# EAGLE library part W9325-ZC158 (library F030NG)
PLCC44 socket plug by Wislow Adaptics
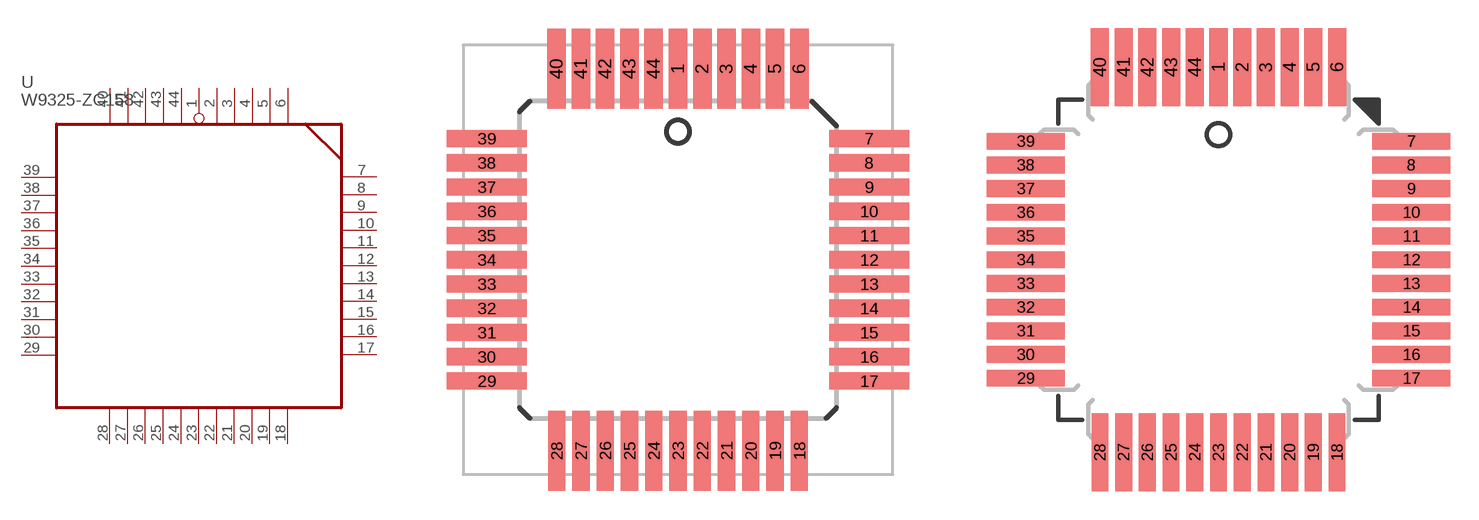
[diagram p93: symbol with the pads of W9325-*; footprints W9325-*, W93275_PHV]

Designator prefix U

## W9325-ZC158  [W9325-*]
1  P1
2  P2
3  P3
4  P4
5  P5
6  P6
7  P7
8  P8
9  P9
10  P10
11  P11
12  P12
13  P13
14  P14
15  P15
16  P16
17  P17
18  P18
19  P19
20  P20
21  P21
22  P22
23  P23
24  P24
25  P25
26  P26
27  P27
28  P28
29  P29
30  P30
31  P31
32  P32
33  P33
34  P34
35  P35
36  P36
37  P37
38  P38
39  P39
40  P40
41  P41
42  P42
43  P43
44  P44

## W9325-ZC158PHV  [W93275_PHV]
Pads as for W9325-*

## Footprint W9325-* (pad centres in mm)
PLASTIC LEADED CHIP CARRIER square
smd 0.97 x 4.2: 1 0,10.005; 2 1.27,10.005; 3 2.54,10.005; 4 3.81,10.005; 5 5.08,10.005; 6 6.35,10.005; 40 -6.35,10.005; 41 -5.08,10.005; 42 -3.81,10.005; 43 -2.54,10.005; 44 -1.27,10.005
smd 4.2 x 0.9: 7 10.005,6.35; 8 10.005,5.08; 9 10.005,3.81; 10 10.005,2.54; 11 10.005,1.27; 12 10.005,0; 13 10.005,-1.27; 14 10.005,-2.54; 15 10.005,-3.81; 16 10.005,-5.08; 17 10.005,-6.35; 29 -10.005,-6.35; 30 -10.005,-5.08; 31 -10.005,-3.81; 32 -10.005,-2.54; 33 -10.005,-1.27; 34 -10.005,0; 35 -10.005,1.27; 36 -10.005,2.54; 37 -10.005,3.81; 38 -10.005,5.08; 39 -10.005,6.35
smd 0.9 x 4.2: 18 6.35,-10.005; 19 5.08,-10.005; 20 3.81,-10.005; 21 2.54,-10.005; 22 1.27,-10.005; 23 0,-10.005; 24 -1.27,-10.005; 25 -2.54,-10.005; 26 -3.81,-10.005; 27 -5.08,-10.005; 28 -6.35,-10.005

## Footprint W93275_PHV (pad centres in mm)
PLASTIC LEADED CHIP CARRIER square
smd 0.97 x 4.2: 1 0,10.322; 2 1.27,10.322; 3 2.54,10.322; 4 3.81,10.322; 5 5.08,10.322; 6 6.35,10.322; 40 -6.35,10.322; 41 -5.08,10.322; 42 -3.81,10.322; 43 -2.54,10.322; 44 -1.27,10.322
smd 4.2 x 0.9: 7 10.322,6.35; 8 10.322,5.08; 9 10.322,3.81; 10 10.322,2.54; 11 10.322,1.27; 12 10.322,0; 13 10.322,-1.27; 14 10.322,-2.54; 15 10.322,-3.81; 16 10.322,-5.08; 17 10.322,-6.35; 29 -10.322,-6.35; 30 -10.322,-5.08; 31 -10.322,-3.81; 32 -10.322,-2.54; 33 -10.322,-1.27; 34 -10.322,0; 35 -10.322,1.27; 36 -10.322,2.54; 37 -10.322,3.81; 38 -10.322,5.08; 39 -10.322,6.35
smd 0.9 x 4.2: 18 6.35,-10.322; 19 5.08,-10.322; 20 3.81,-10.322; 21 2.54,-10.322; 22 1.27,-10.322; 23 0,-10.322; 24 -1.27,-10.322; 25 -2.54,-10.322; 26 -3.81,-10.322; 27 -5.08,-10.322; 28 -6.35,-10.322